# EAGLE library part OUTPUTCONN (library F2624)
output connector molex 09-48-1124
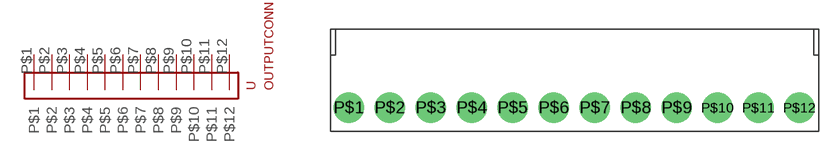
[diagram p0: symbol with the pads of OUTPUTCONNECTOR; footprint OUTPUTCONNECTOR]

Designator prefix -

## OUTPUTCONN  [OUTPUTCONNECTOR]
P$1  P$1
P$2  P$2
P$3  P$3
P$4  P$4
P$5  P$5
P$6  P$6
P$7  P$7
P$8  P$8
P$9  P$9
P$10  P$10
P$11  P$11
P$12  P$12

## Footprint OUTPUTCONNECTOR (pad centres in mm)
drill 1.5 pad 2.921: P$1 0,0; P$2 3.962,0; P$3 7.925,0; P$4 11.887,0; P$5 15.85,0; P$6 19.812,0; P$7 23.774,0; P$8 27.737,0; P$9 31.699,0; P$10 35.662,0; P$11 39.624,0; P$12 43.586,0